# Altium footprint library SSQ-115-04-T-S.PcbLib: 1 footprints
Each footprint in its own frame and in the unit in brackets; x right, y up, seen from the top. Pads: shape width x height; smd on the part's side, far side on the other; paste and mask are expansions set on the pad; w line width, h text height; cw(c..) or ccw(c..) is an arc to the next point about the centre after c.
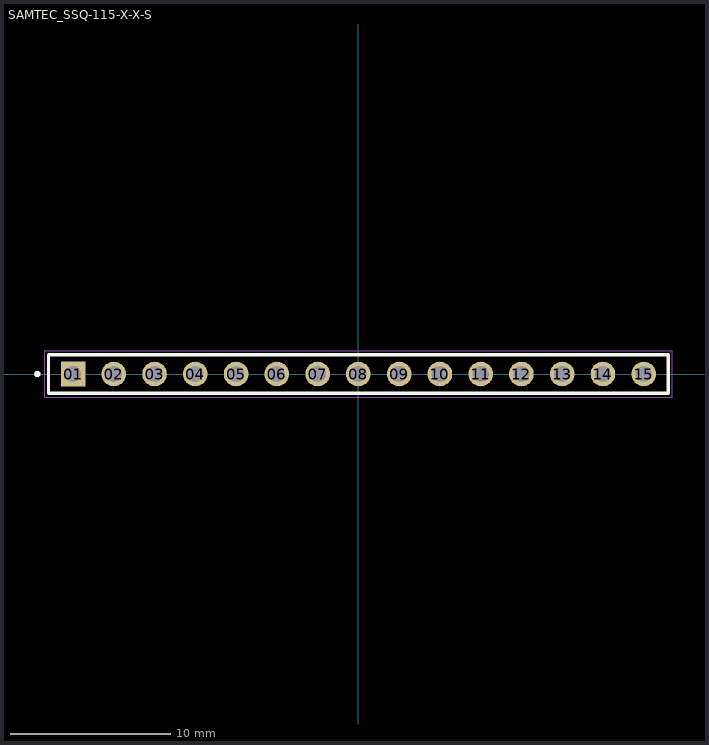
[diagram p0: the footprint, top view; thin cyan lines are the x and y axes]

## SAMTEC_SSQ-115-X-X-S [mm]
pads (15):
  rect 1.53x1.53 hole 1.02: 01(-17.78,0)
  round 1.53 hole 1.02: 02(-15.24,0) 03(-12.7,0) 04(-10.16,0) 05(-7.62,0) 06(-5.08,0) 07(-2.54,0) 08(0,0) 09(2.54,0) 10(5.08,0) 11(7.62,0) 12(10.16,0) 13(12.7,0) 14(15.24,0) 15(17.78,0)
Top Overlay:
  circle w0.2: c-20,0 r0.1
  lines w0.2: -19.305,-1.205 19.305,-1.205 19.305,1.205 -19.305,1.205 -19.305,-1.205
Mechanical 13:
  circle w0.2: c-20,0 r0.1
  lines w0.1: -19.305,-1.205 19.305,-1.205 19.305,1.205 -19.305,1.205 -19.305,-1.205
Mechanical 15:
  lines w0.05: -19.555,-1.455 19.555,-1.455 19.555,1.455 -19.555,1.455 -19.555,-1.455